# Altium integrated library ON Semi Triacs.IntLib: 233 symbols (part 5 of 5)
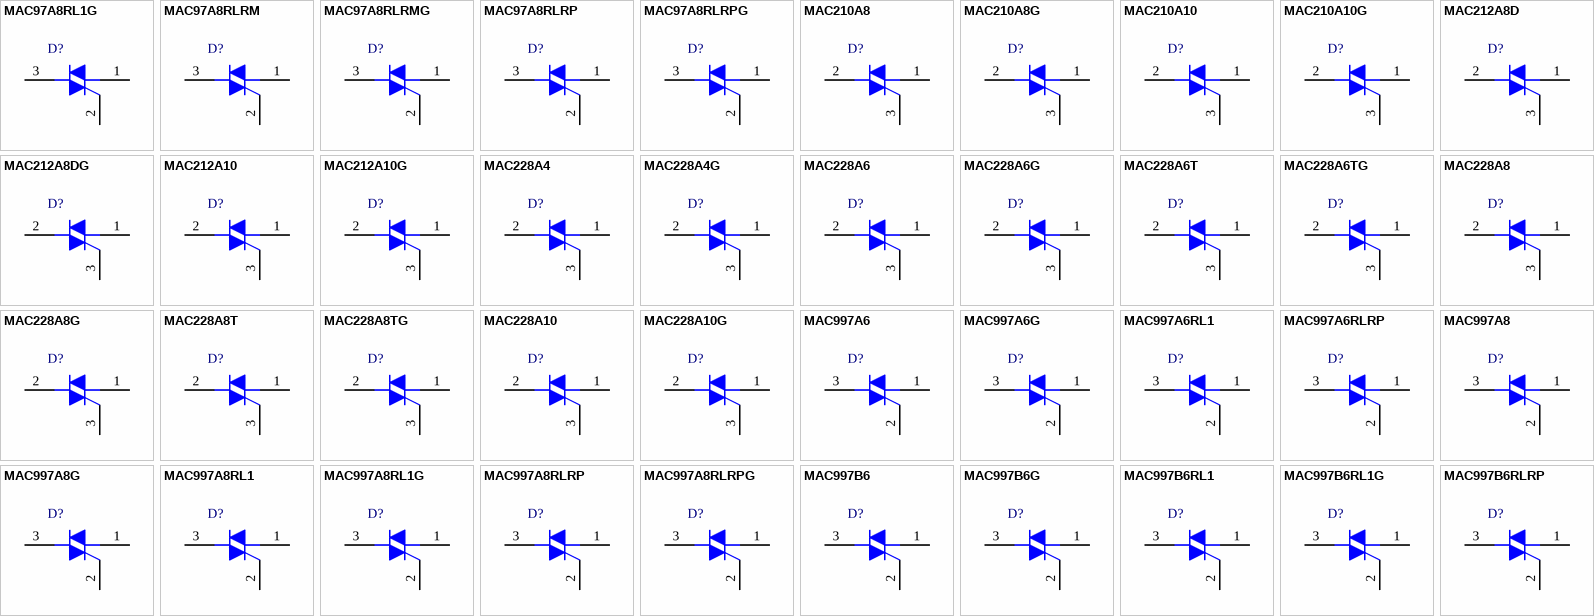
[diagram p9: symbols MAC97A8RL1G to MAC997B6RLRP]

## MAC997B6
designator D?
Sensitive Gate Triacs, Silicon Bidirectional Thyristor, 3-Pin TO-92, Bulk Box; Manufacturer: On Semiconductor; PartNumber: MAC997B6; IT(RMS) Max (A): 0.8; ITSM Max (A): 8; DatasheetVersion: Rev. 3; PackageVersion: Rev. AM; PackageReference: TO-92-3-29-11_AM_SL; PackageDescription: 3-Pin Transistor Outline, Body 4.825 x 3.685 mm, Pitch 1.27 mm; Supplier 1: Digi-Key; Supplier Part Number 1: MAC997B6-ND; Packing: Bulk Box; Mounting Technology: Through Hole; ComponentLink1Description: Manufacturer URL; ComponentLink1URL: http://www.onsemi.com/; ComponentLink2Description: Datasheet; ComponentLink2URL: http://www.onsemi.com/pub_link/Collateral/MAC997-D.PDF; ComponentLink3Description: Package Specification; ComponentLink3URL: http://www.onsemi.cn/pub_link/Collateral/2N6426-D.PDF
footprint ONSC-TO-92-3-29-11 (TO, 3-Leads, Body Dia 4.7mm, Pitch 1.27mm)
pins: 1 MT1, 2 G, 3 MT2

## MAC997B6G
designator D?
Sensitive Gate Triacs, Silicon Bidirectional Thyristor, 3-Pin TO-92, Pb-Free, Bulk Box; Manufacturer: On Semiconductor; PartNumber: MAC997B6G; IT(RMS) Max (A): 0.8; ITSM Max (A): 8; DatasheetVersion: Rev. 3; PackageVersion: Rev. AM; PackageReference: TO-92-3-29-11_AM_SL; PackageDescription: 3-Pin Transistor Outline, Body 4.825 x 3.685 mm, Pitch 1.27 mm; Supplier 1: Digi-Key; Supplier Part Number 1: MAC997B6G-ND; Supplier 2: Mouser; Supplier Part Number 2: 863-MAC997B6G; Packing: Bulk Box; RoHS: Pb-Free; Mounting Technology: Through Hole; ComponentLink1Description: Manufacturer URL; ComponentLink1URL: http://www.onsemi.com/; ComponentLink2Description: Datasheet; ComponentLink2URL: http://www.onsemi.com/pub_link/Collateral/MAC997-D.PDF; ComponentLink3Description: Package Specification; ComponentLink3URL: http://www.onsemi.cn/pub_link/Collateral/2N6426-D.PDF
footprint ONSC-TO-92-3-29-11 (TO, 3-Leads, Body Dia 4.7mm, Pitch 1.27mm)
pins: 1 MT1, 2 G, 3 MT2

## MAC997B6RL1
designator D?
Sensitive Gate Triacs, Silicon Bidirectional Thyristor, 3-Pin TO-92, Tape and Reel; Manufacturer: On Semiconductor; PartNumber: MAC997B6RL1; IT(RMS) Max (A): 0.8; ITSM Max (A): 8; DatasheetVersion: Rev. 3; PackageVersion: Rev. AM; PackageReference: TO-92-3-29-11_AM_SL; PackageDescription: 3-Pin Transistor Outline, Body 4.825 x 3.685 mm, Pitch 1.27 mm; Packing: Tape and Reel; Mounting Technology: Through Hole; ComponentLink1Description: Manufacturer URL; ComponentLink1URL: http://www.onsemi.com/; ComponentLink2Description: Datasheet; ComponentLink2URL: http://www.onsemi.com/pub_link/Collateral/MAC997-D.PDF; ComponentLink3Description: Package Specification; ComponentLink3URL: http://www.onsemi.cn/pub_link/Collateral/2N6426-D.PDF
footprint ONSC-TO-92-3-29-11 (TO, 3-Leads, Body Dia 4.7mm, Pitch 1.27mm)
pins: 1 MT1, 2 G, 3 MT2

## MAC997B6RL1G
designator D?
Sensitive Gate Triacs, Silicon Bidirectional Thyristor, 3-Pin TO-92, Pb-Free, Tape and Reel; Manufacturer: On Semiconductor; PartNumber: MAC997B6RL1G; IT(RMS) Max (A): 0.8; ITSM Max (A): 8; DatasheetVersion: Rev. 3; PackageVersion: Rev. AM; PackageReference: TO-92-3-29-11_AM_SL; PackageDescription: 3-Pin Transistor Outline, Body 4.825 x 3.685 mm, Pitch 1.27 mm; Supplier 1: Digi-Key; Supplier Part Number 1: MAC997B6RL1G-ND; Supplier 2: Mouser; Supplier Part Number 2: 863-MAC997B6RL1G; Packing: Tape and Reel; RoHS: Pb-Free; Mounting Technology: Through Hole; ComponentLink1Description: Manufacturer URL; ComponentLink1URL: http://www.onsemi.com/; ComponentLink2Description: Datasheet; ComponentLink2URL: http://www.onsemi.com/pub_link/Collateral/MAC997-D.PDF; ComponentLink3Description: Package Specification; ComponentLink3URL: http://www.onsemi.cn/pub_link/Collateral/2N6426-D.PDF
footprint ONSC-TO-92-3-29-11 (TO, 3-Leads, Body Dia 4.7mm, Pitch 1.27mm)
pins: 1 MT1, 2 G, 3 MT2

## MAC997B6RLRP
designator D?
Sensitive Gate Triacs, Silicon Bidirectional Thyristor, 3-Pin TO-92, Fan-Fold; Manufacturer: On Semiconductor; PartNumber: MAC997B6RLRP; IT(RMS) Max (A): 0.8; ITSM Max (A): 8; DatasheetVersion: Rev. 3; PackageVersion: Rev. AM; PackageReference: TO-92-3-29-11_AM_SL; PackageDescription: 3-Pin Transistor Outline, Body 4.825 x 3.685 mm, Pitch 1.27 mm; Supplier 1: Mouser; Supplier Part Number 1: N/A; Packing: Fan-Fold; Mounting Technology: Through Hole; ComponentLink1Description: Manufacturer URL; ComponentLink1URL: http://www.onsemi.com/; ComponentLink2Description: Datasheet; ComponentLink2URL: http://www.onsemi.com/pub_link/Collateral/MAC997-D.PDF; ComponentLink3Description: Package Specification; ComponentLink3URL: http://www.onsemi.cn/pub_link/Collateral/2N6426-D.PDF
footprint ONSC-TO-92-3-29-11 (TO, 3-Leads, Body Dia 4.7mm, Pitch 1.27mm)
pins: 1 MT1, 2 G, 3 MT2

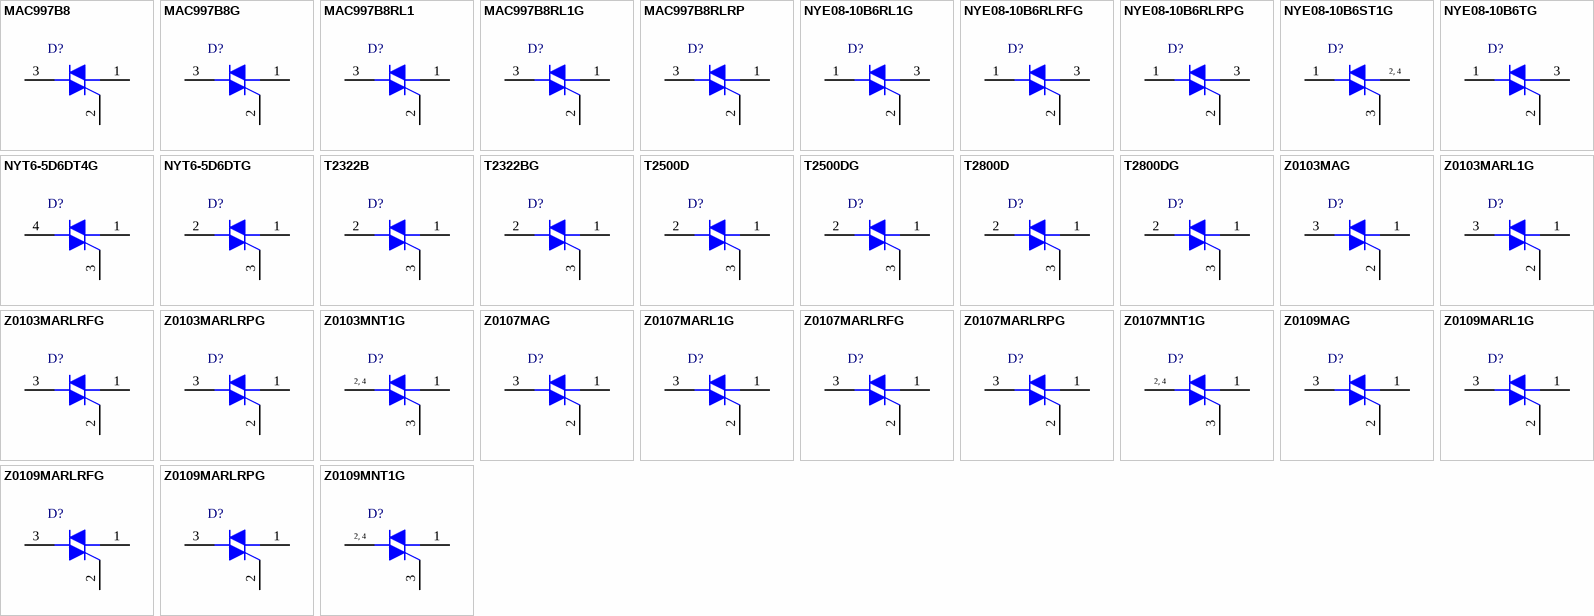
[diagram p5: symbols MAC997B8 to Z0109MNT1G]

## MAC997B8
designator D?
Sensitive Gate Triacs, Silicon Bidirectional Thyristor, 3-Pin TO-92, Bulk Box; Manufacturer: On Semiconductor; PartNumber: MAC997B8; IT(RMS) Max (A): 0.8; ITSM Max (A): 8; DatasheetVersion: Rev. 3; PackageVersion: Rev. AM; PackageReference: TO-92-3-29-11_AM_SL; PackageDescription: 3-Pin Transistor Outline, Body 4.825 x 3.685 mm, Pitch 1.27 mm; Supplier 1: Digi-Key; Supplier Part Number 1: MAC997B8-ND; Packing: Bulk Box; Mounting Technology: Through Hole; ComponentLink1Description: Manufacturer URL; ComponentLink1URL: http://www.onsemi.com/; ComponentLink2Description: Datasheet; ComponentLink2URL: http://www.onsemi.com/pub_link/Collateral/MAC997-D.PDF; ComponentLink3Description: Package Specification; ComponentLink3URL: http://www.onsemi.cn/pub_link/Collateral/2N6426-D.PDF
footprint ONSC-TO-92-3-29-11 (TO, 3-Leads, Body Dia 4.7mm, Pitch 1.27mm)
pins: 1 MT1, 2 G, 3 MT2

## MAC997B8G
designator D?
Sensitive Gate Triacs, Silicon Bidirectional Thyristor, 3-Pin TO-92, Pb-Free, Bulk Box; Manufacturer: On Semiconductor; PartNumber: MAC997B8G; IT(RMS) Max (A): 0.8; ITSM Max (A): 8; DatasheetVersion: Rev. 3; PackageVersion: Rev. AM; PackageReference: TO-92-3-29-11_AM_SL; PackageDescription: 3-Pin Transistor Outline, Body 4.825 x 3.685 mm, Pitch 1.27 mm; Supplier 1: Digi-Key; Supplier Part Number 1: MAC997B8G-ND; Supplier 2: Mouser; Supplier Part Number 2: 863-MAC997B8G; Packing: Bulk Box; RoHS: Pb-Free; Mounting Technology: Through Hole; ComponentLink1Description: Manufacturer URL; ComponentLink1URL: http://www.onsemi.com/; ComponentLink2Description: Datasheet; ComponentLink2URL: http://www.onsemi.com/pub_link/Collateral/MAC997-D.PDF; ComponentLink3Description: Package Specification; ComponentLink3URL: http://www.onsemi.cn/pub_link/Collateral/2N6426-D.PDF
footprint ONSC-TO-92-3-29-11 (TO, 3-Leads, Body Dia 4.7mm, Pitch 1.27mm)
pins: 1 MT1, 2 G, 3 MT2

## MAC997B8RL1
designator D?
Sensitive Gate Triacs, Silicon Bidirectional Thyristor, 3-Pin TO-92, Tape and Reel; Manufacturer: On Semiconductor; PartNumber: MAC997B8RL1; IT(RMS) Max (A): 0.8; ITSM Max (A): 8; DatasheetVersion: Rev. 3; PackageVersion: Rev. AM; PackageReference: TO-92-3-29-11_AM_SL; PackageDescription: 3-Pin Transistor Outline, Body 4.825 x 3.685 mm, Pitch 1.27 mm; Packing: Tape and Reel; Mounting Technology: Through Hole; ComponentLink1Description: Manufacturer URL; ComponentLink1URL: http://www.onsemi.com/; ComponentLink2Description: Datasheet; ComponentLink2URL: http://www.onsemi.com/pub_link/Collateral/MAC997-D.PDF; ComponentLink3Description: Package Specification; ComponentLink3URL: http://www.onsemi.cn/pub_link/Collateral/2N6426-D.PDF
footprint ONSC-TO-92-3-29-11 (TO, 3-Leads, Body Dia 4.7mm, Pitch 1.27mm)
pins: 1 MT1, 2 G, 3 MT2

## MAC997B8RL1G
designator D?
Sensitive Gate Triacs, Silicon Bidirectional Thyristor, 3-Pin TO-92, Pb-Free, Tape and Reel; Manufacturer: On Semiconductor; PartNumber: MAC997B8RL1G; IT(RMS) Max (A): 0.8; ITSM Max (A): 8; DatasheetVersion: Rev. 3; PackageVersion: Rev. AM; PackageReference: TO-92-3-29-11_AM_SL; PackageDescription: 3-Pin Transistor Outline, Body 4.825 x 3.685 mm, Pitch 1.27 mm; Supplier 1: Digi-Key; Supplier Part Number 1: MAC997B8RL1G-ND; Supplier 2: Mouser; Supplier Part Number 2: 863-MAC997B8RL1G; Packing: Tape and Reel; RoHS: Pb-Free; Mounting Technology: Through Hole; ComponentLink1Description: Manufacturer URL; ComponentLink1URL: http://www.onsemi.com/; ComponentLink2Description: Datasheet; ComponentLink2URL: http://www.onsemi.com/pub_link/Collateral/MAC997-D.PDF; ComponentLink3Description: Package Specification; ComponentLink3URL: http://www.onsemi.cn/pub_link/Collateral/2N6426-D.PDF
footprint ONSC-TO-92-3-29-11 (TO, 3-Leads, Body Dia 4.7mm, Pitch 1.27mm)
pins: 1 MT1, 2 G, 3 MT2

## MAC997B8RLRP
designator D?
Sensitive Gate Triacs, Silicon Bidirectional Thyristor, 3-Pin TO-92, Fan-Fold; Manufacturer: On Semiconductor; PartNumber: MAC997B8RLRP; IT(RMS) Max (A): 0.8; ITSM Max (A): 8; DatasheetVersion: Rev. 3; PackageVersion: Rev. AM; PackageReference: TO-92-3-29-11_AM_SL; PackageDescription: 3-Pin Transistor Outline, Body 4.825 x 3.685 mm, Pitch 1.27 mm; Supplier 1: Mouser; Supplier Part Number 1: N/A; Packing: Fan-Fold; Mounting Technology: Through Hole; ComponentLink1Description: Manufacturer URL; ComponentLink1URL: http://www.onsemi.com/; ComponentLink2Description: Datasheet; ComponentLink2URL: http://www.onsemi.com/pub_link/Collateral/MAC997-D.PDF; ComponentLink3Description: Package Specification; ComponentLink3URL: http://www.onsemi.cn/pub_link/Collateral/2N6426-D.PDF
footprint ONSC-TO-92-3-29-11 (TO, 3-Leads, Body Dia 4.7mm, Pitch 1.27mm)
pins: 1 MT1, 2 G, 3 MT2

## NYE08-10B6RL1G
designator D?
Protected Triac, Silicon Bidirectional Thyristor, 3-Pin TO-92, Pb-Free, Tape and Reel; Manufacturer: On Semiconductor; PartNumber: NYE08-10B6RL1G; IGT Max (mA): 10; IT(RMS) Max (A): 0.8; ITSM Max (A): 8; DatasheetVersion: Rev. 0; PackageVersion: Rev. AM; PackageReference: TO-92-3-29-11_AM_SL; PackageDescription: 3-Pin Transistor Outline, Body 4.825 x 3.685 mm, Pitch 1.27 mm; Packing: Tape and Reel; RoHS: Pb-Free; Mounting Technology: Through Hole; ComponentLink1Description: Manufacturer URL; ComponentLink1URL: http://www.onsemi.com/; ComponentLink2Description: Datasheet; ComponentLink2URL: http://www.onsemi.com/pub_link/Collateral/NYE08-10B6.PDF; ComponentLink3Description: Package Specification; ComponentLink3URL: http://www.onsemi.cn/pub_link/Collateral/2N6426-D.PDF
footprint ONSC-TO-92-3-29-11 (TO, 3-Leads, Body Dia 4.7mm, Pitch 1.27mm)
pins: 1 OUT, 2 G, 3 COM

## NYE08-10B6RLRFG
designator D?
Protected Triac, Silicon Bidirectional Thyristor, 3-Pin TO-92, Pb-Free, Fan-Fold; Manufacturer: On Semiconductor; PartNumber: NYE08-10B6RLRFG; IGT Max (mA): 10; IT(RMS) Max (A): 0.8; ITSM Max (A): 8; DatasheetVersion: Rev. 0; PackageVersion: Rev. AM; PackageReference: TO-92-3-29-11_AM_SL; PackageDescription: 3-Pin Transistor Outline, Body 4.825 x 3.685 mm, Pitch 1.27 mm; Packing: Fan-Fold; RoHS: Pb-Free; Mounting Technology: Through Hole; ComponentLink1Description: Manufacturer URL; ComponentLink1URL: http://www.onsemi.com/; ComponentLink2Description: Datasheet; ComponentLink2URL: http://www.onsemi.com/pub_link/Collateral/NYE08-10B6.PDF; ComponentLink3Description: Package Specification; ComponentLink3URL: http://www.onsemi.cn/pub_link/Collateral/2N6426-D.PDF
footprint ONSC-TO-92-3-29-11 (TO, 3-Leads, Body Dia 4.7mm, Pitch 1.27mm)
pins: 1 OUT, 2 G, 3 COM

## NYE08-10B6RLRPG
designator D?
Protected Triac, Silicon Bidirectional Thyristor, 3-Pin TO-92, Pb-Free, Fan-Fold; Manufacturer: On Semiconductor; PartNumber: NYE08-10B6RLRPG; IGT Max (mA): 10; IT(RMS) Max (A): 0.8; ITSM Max (A): 8; DatasheetVersion: Rev. 0; PackageVersion: Rev. AM; PackageReference: TO-92-3-29-11_AM_SL; PackageDescription: 3-Pin Transistor Outline, Body 4.825 x 3.685 mm, Pitch 1.27 mm; Packing: Fan-Fold; RoHS: Pb-Free; Mounting Technology: Through Hole; ComponentLink1Description: Manufacturer URL; ComponentLink1URL: http://www.onsemi.com/; ComponentLink2Description: Datasheet; ComponentLink2URL: http://www.onsemi.com/pub_link/Collateral/NYE08-10B6.PDF; ComponentLink3Description: Package Specification; ComponentLink3URL: http://www.onsemi.cn/pub_link/Collateral/2N6426-D.PDF
footprint ONSC-TO-92-3-29-11 (TO, 3-Leads, Body Dia 4.7mm, Pitch 1.27mm)
pins: 1 OUT, 2 G, 3 COM

## NYE08-10B6ST1G
designator D?
Protected Triac, Silicon Bidirectional Thyristor, 4-Pin SOT-223, Pb-Free, Tape and Reel; Manufacturer: On Semiconductor; PartNumber: NYE08-10B6ST1G; IGT Max (mA): 10; IT(RMS) Max (A): 0.8; ITSM Max (A): 8; DatasheetVersion: Rev. 0; PackageVersion: Rev. N, 08/2009; PackageReference: SOT-223-4-318E-04; PackageDescription: 4-Pin Small Outline Transistor, Body 6.5 x 3.5 mm, Pitch 2.3 mm; Supplier 1: Newark; Supplier Part Number 1: 45W3762; Supplier 2: Mouser; Supplier Part Number 2: 863-NYE08-10B6ST1G; Packing: Tape and Reel; RoHS: Pb-Free; Mounting Technology: Surface Mount; ComponentLink1Description: Manufacturer URL; ComponentLink1URL: http://www.onsemi.com/; ComponentLink2Description: Datasheet; ComponentLink2URL: http://www.onsemi.com/pub_link/Collateral/NYE08-10B6S-D.PDF; ComponentLink3Description: Package Specification; ComponentLink3URL: http://www.onsemi.com/pub_link/Collateral/318E-04.PDF
footprint ONSC-SOT-223-4-318E-04_V (SOT223, 4-Leads, Body 6.5x3.5mm, Pitch 2.3mm)
pins: 1 OUT, 2 COM, 3 G, 4 COM
text: 2, 4

## NYE08-10B6TG
designator D?
Protected Triac, Silicon Bidirectional Thyristor, 3-Pin TO-92, Pb-Free, Bulk Box; Manufacturer: On Semiconductor; PartNumber: NYE08-10B6TG; IGT Max (mA): 10; IT(RMS) Max (A): 0.8; ITSM Max (A): 8; DatasheetVersion: Rev. 0; PackageVersion: Rev. AM; PackageReference: TO-92-3-29-11_AM_SL; PackageDescription: 3-Pin Transistor Outline, Body 4.825 x 3.685 mm, Pitch 1.27 mm; Supplier 1: Mouser; Supplier Part Number 1: 863-NYE08-10B6TG; Packing: Bulk Box; RoHS: Pb-Free; Mounting Technology: Through Hole; ComponentLink1Description: Manufacturer URL; ComponentLink1URL: http://www.onsemi.com/; ComponentLink2Description: Datasheet; ComponentLink2URL: http://www.onsemi.com/pub_link/Collateral/NYE08-10B6.PDF; ComponentLink3Description: Package Specification; ComponentLink3URL: http://www.onsemi.cn/pub_link/Collateral/2N6426-D.PDF
footprint ONSC-TO-92-3-29-11 (TO, 3-Leads, Body Dia 4.7mm, Pitch 1.27mm)
pins: 1 OUT, 2 G, 3 COM

## NYT6-5D6DT4G
designator D?
Sensitive Gate Triacs, Silicon Bidirectional Thyristor, 3-Pin DPAK, Pb-Free, Tape and Reel; Manufacturer: On Semiconductor; PartNumber: NYT6-5D6DT4G; IT(RMS) Max (A): 6; ITSM Max (A): 60; DatasheetVersion: Rev. 2; PackageVersion: Rev. E, 02/2014; PackageReference: DPAK-3-369C-01; PackageDescription: 3-Pin Flange Mount, Body 6.54 x 6.095 mm, Pitch 2.29 mm; Packing: Tape and Reel; RoHS: Pb-Free; Mounting Technology: Surface Mount; ComponentLink1Description: Manufacturer URL; ComponentLink1URL: http://www.onsemi.com/; ComponentLink2Description: Datasheet; ComponentLink2URL: http://www.onsemi.com/pub_link/Collateral/NYT6-5D6D-D.PDF; ComponentLink3Description: Package Specification; ComponentLink3URL: http://www.onsemi.cn/pub_link/Collateral/369C.PDF
footprint ONSC-DPAK-3-369C-01_V (DPAK, 3-Leads, Body 6.54x6.095mm, Pitch 2.29mm)
pins: 1 MT1, 3 G, 4 MT2

## NYT6-5D6DTG
designator D?
Sensitive Gate Triacs, Silicon Bidirectional Thyristor, 3-Pin IPAK, Pb-Free, Tube; Manufacturer: On Semiconductor; PartNumber: NYT6-5D6DTG; IT(RMS) Max (A): 6; ITSM Max (A): 60; DatasheetVersion: Rev. 2; PackageVersion: Rev. C, 12/2010; PackageReference: IPAK-3-369D-01; PackageDescription: 3-Pin Flange Mount, Vertical Straight Lead, Body 6.54 x 2.285 mm, Pitch 2.29 mm; Packing: Tube; RoHS: Pb-Free; Mounting Technology: Through Hole; Code_JEDEC: TO-251; ComponentLink1Description: Manufacturer URL; ComponentLink1URL: http://www.onsemi.com/; ComponentLink2Description: Datasheet; ComponentLink2URL: http://www.onsemi.com/pub_link/Collateral/NYT6-5D6D-D.PDF; ComponentLink3Description: Package Specification; ComponentLink3URL: http://www.onsemi.cn/pub_link/Collateral/369D.PDF
footprint ONSC-IPAK-3-369D-01 (FM, 3-Leads, Body 6.75x2.4mm, Pitch 2.29mm)
pins: 1 MT1, 2 MT2, 3 G

## T2322B
designator D?
Sensitive Gate Triacs, Silicon Bidirectional Thyristor, 3-Pin TO-225, Bulk Box; Manufacturer: On Semiconductor; PartNumber: T2322B; IGT Max (mA): 10; IT(RMS) Max (A): 2.5; ITSM Max (A): 25; DatasheetVersion: Rev. 5; PackageVersion: Rev. Z; PackageReference: TO-225-3-77-09; PackageDescription: 3-Pin Flange Mount, Vertical Straight Lead, Body 7.62 x 2.54 mm, Pitch 2.39 mm; Supplier 1: Digi-Key; Supplier Part Number 1: T2322BOS-ND; Packing: Bulk Box; Mounting Technology: Through Hole; ComponentLink1Description: Manufacturer URL; ComponentLink1URL: http://www.onsemi.com/; ComponentLink2Description: Datasheet; ComponentLink2URL: http://www.onsemi.com/pub_link/Collateral/T2322-D.PDF; ComponentLink3Description: Package Specification; ComponentLink3URL: http://www.onsemi.cn/pub_link/Collateral/C106-D.PDF
footprint ONSC-TO-225-3-77-09_Z (FM, 3-Leads, Body 7.75x2.7mm, Pitch 2.39mm)
pins: 1 MT1, 2 MT2, 3 G

## T2322BG
designator D?
Sensitive Gate Triacs, Silicon Bidirectional Thyristor, 3-Pin TO-225, Pb-Free, Bulk Box; Manufacturer: On Semiconductor; PartNumber: T2322BG; IGT Max (mA): 10; IT(RMS) Max (A): 2.5; ITSM Max (A): 25; DatasheetVersion: Rev. 5; PackageVersion: Rev. Z; PackageReference: TO-225-3-77-09; PackageDescription: 3-Pin Flange Mount, Vertical Straight Lead, Body 7.62 x 2.54 mm, Pitch 2.39 mm; Supplier 1: Digi-Key; Supplier Part Number 1: T2322BGOS-ND; Supplier 2: Newark; Supplier Part Number 2: 42K2704; Supplier 3: Mouser; Supplier Part Number 3: 863-T2322BG; Packing: Bulk Box; RoHS: Pb-Free; Mounting Technology: Through Hole; ComponentLink1Description: Manufacturer URL; ComponentLink1URL: http://www.onsemi.com/; ComponentLink2Description: Datasheet; ComponentLink2URL: http://www.onsemi.com/pub_link/Collateral/T2322-D.PDF; ComponentLink3Description: Package Specification; ComponentLink3URL: http://www.onsemi.cn/pub_link/Collateral/C106-D.PDF
footprint ONSC-TO-225-3-77-09_Z (FM, 3-Leads, Body 7.75x2.7mm, Pitch 2.39mm)
pins: 1 MT1, 2 MT2, 3 G

## T2500D
designator D?
Triacs, Silicon Bidirectional Thyristor, 3-Pin TO-220, Bulk Box; Manufacturer: On Semiconductor; PartNumber: T2500D; IT(RMS) Max (A): 6; ITSM Max (A): 60; DatasheetVersion: Rev. 4; PackageVersion: Rev. O, 07/2008; PackageReference: TO-220-3-221A-07; PackageDescription: 3-Pin Flange Mount, Vertical Straight Lead, Body 9.97 x 4.445 mm, Pitch 2.54 mm; Packing: Bulk Box; Mounting Technology: Through Hole; ComponentLink1Description: Manufacturer URL; ComponentLink1URL: http://www.onsemi.com/; ComponentLink2Description: Datasheet; ComponentLink2URL: http://www.onsemi.com/pub_link/Collateral/T2500-D.PDF; ComponentLink3Description: Package Specification; ComponentLink3URL: http://www.onsemi.com/pub_link/Collateral/221A-07.PDF
footprint ONSC-TO-220-3-221A-07 (FM, 3-Leads, Body 10.3x4.85mm, Pitch 2.54mm)
pins: 1 MT1, 2 MT2, 3 G

## T2500DG
designator D?
Triacs, Silicon Bidirectional Thyristor, 3-Pin TO-220, Pb-Free, Bulk Box; Manufacturer: On Semiconductor; PartNumber: T2500DG; IT(RMS) Max (A): 6; ITSM Max (A): 60; DatasheetVersion: Rev. 4; PackageVersion: Rev. O, 07/2008; PackageReference: TO-220-3-221A-07; PackageDescription: 3-Pin Flange Mount, Vertical Straight Lead, Body 9.97 x 4.445 mm, Pitch 2.54 mm; Supplier 1: Digi-Key; Supplier Part Number 1: T2500DGOS-ND; Supplier 2: Farnell; Supplier Part Number 2: 1126289; Supplier 3: Newark; Supplier Part Number 3: 42K2705; Supplier 4: Mouser; Supplier Part Number 4: 863-T2500DG; Packing: Bulk Box; RoHS: Pb-Free; Mounting Technology: Through Hole; ComponentLink1Description: Manufacturer URL; ComponentLink1URL: http://www.onsemi.com/; ComponentLink2Description: Datasheet; ComponentLink2URL: http://www.onsemi.com/pub_link/Collateral/T2500-D.PDF; ComponentLink3Description: Package Specification; ComponentLink3URL: http://www.onsemi.com/pub_link/Collateral/221A-07.PDF
footprint ONSC-TO-220-3-221A-07 (FM, 3-Leads, Body 10.3x4.85mm, Pitch 2.54mm)
pins: 1 MT1, 2 MT2, 3 G

## T2800D
designator D?
Triacs, Silicon Bidirectional Thyristor, 3-Pin TO-220, Bulk Box; Manufacturer: On Semiconductor; PartNumber: T2800D; IT(RMS) Max (A): 8; ITSM Max (A): 100; DatasheetVersion: Rev. 5; PackageVersion: Rev. O, 07/2008; PackageReference: TO-220-3-221A-07; PackageDescription: 3-Pin Flange Mount, Vertical Straight Lead, Body 9.97 x 4.445 mm, Pitch 2.54 mm; Packing: Bulk Box; Mounting Technology: Through Hole; ComponentLink1Description: Manufacturer URL; ComponentLink1URL: http://www.onsemi.com/; ComponentLink2Description: Datasheet; ComponentLink2URL: http://www.onsemi.com/pub_link/Collateral/T2800-D.PDF; ComponentLink3Description: Package Specification; ComponentLink3URL: http://www.onsemi.com/pub_link/Collateral/221A-07.PDF
footprint ONSC-TO-220-3-221A-07 (FM, 3-Leads, Body 10.3x4.85mm, Pitch 2.54mm)
pins: 1 MT1, 2 MT2, 3 G

## T2800DG
designator D?
Triacs, Silicon Bidirectional Thyristor, 3-Pin TO-220, Pb-Free, Bulk Box; Manufacturer: On Semiconductor; PartNumber: T2800DG; IT(RMS) Max (A): 8; ITSM Max (A): 100; DatasheetVersion: Rev. 5; PackageVersion: Rev. O, 07/2008; PackageReference: TO-220-3-221A-07; PackageDescription: 3-Pin Flange Mount, Vertical Straight Lead, Body 9.97 x 4.445 mm, Pitch 2.54 mm; Supplier 1: Digi-Key; Supplier Part Number 1: T2800DGOS-ND; Supplier 2: Farnell; Supplier Part Number 2: 1703910; Supplier 3: Newark; Supplier Part Number 3: 42K2706; Supplier 4: Mouser; Supplier Part Number 4: 863-T2800DG; Packing: Bulk Box; RoHS: Pb-Free; Mounting Technology: Through Hole; ComponentLink1Description: Manufacturer URL; ComponentLink1URL: http://www.onsemi.com/; ComponentLink2Description: Datasheet; ComponentLink2URL: http://www.onsemi.com/pub_link/Collateral/T2800-D.PDF; ComponentLink3Description: Package Specification; ComponentLink3URL: http://www.onsemi.com/pub_link/Collateral/221A-07.PDF
footprint ONSC-TO-220-3-221A-07 (FM, 3-Leads, Body 10.3x4.85mm, Pitch 2.54mm)
pins: 1 MT1, 2 MT2, 3 G

## Z0103MAG
designator D?
Sensitive Gate Triac Series, Silicon Bidirectional Thyristor, 3-Pin TO-92, Pb-Free, Bulk Box; Manufacturer: On Semiconductor; PartNumber: Z0103MAG; IT(RMS) Max (A): 1; ITSM Max (A): 8; DatasheetVersion: Rev. 4; PackageVersion: Rev. AM; PackageReference: TO-92-3-29-11_AM_SL; PackageDescription: 3-Pin Transistor Outline, Body 4.825 x 3.685 mm, Pitch 1.27 mm; Supplier 1: Digi-Key; Supplier Part Number 1: Z0103MAG-ND; Supplier 2: Newark; Supplier Part Number 2: 01P5189; Supplier 3: Mouser; Supplier Part Number 3: 863-Z0103MAG; Packing: Bulk Box; RoHS: Pb-Free; Mounting Technology: Through Hole; ComponentLink1Description: Manufacturer URL; ComponentLink1URL: http://www.onsemi.com/; ComponentLink2Description: Datasheet; ComponentLink2URL: http://www.onsemi.com/pub_link/Collateral/Z0103MA-D.PDF; ComponentLink3Description: Package Specification; ComponentLink3URL: http://www.onsemi.cn/pub_link/Collateral/2N6426-D.PDF
footprint ONSC-TO-92-3-29-11 (TO, 3-Leads, Body Dia 4.7mm, Pitch 1.27mm)
pins: 1 MT1, 2 G, 3 MT2

## Z0103MARL1G
designator D?
Sensitive Gate Triac Series, Silicon Bidirectional Thyristor, 3-Pin TO-92, Pb-Free, Tape and Reel; Manufacturer: On Semiconductor; PartNumber: Z0103MARL1G; IT(RMS) Max (A): 1; ITSM Max (A): 8; DatasheetVersion: Rev. 4; PackageVersion: Rev. AM; PackageReference: TO-92-3-29-11_AM_SL; PackageDescription: 3-Pin Transistor Outline, Body 4.825 x 3.685 mm, Pitch 1.27 mm; Supplier 1: Digi-Key; Supplier Part Number 1: Z0103MARL1G-ND; Supplier 2: Mouser; Supplier Part Number 2: 863-Z0103MARL1G; Packing: Tape and Reel; RoHS: Pb-Free; Mounting Technology: Through Hole; ComponentLink1Description: Manufacturer URL; ComponentLink1URL: http://www.onsemi.com/; ComponentLink2Description: Datasheet; ComponentLink2URL: http://www.onsemi.com/pub_link/Collateral/Z0103MA-D.PDF; ComponentLink3Description: Package Specification; ComponentLink3URL: http://www.onsemi.cn/pub_link/Collateral/2N6426-D.PDF
footprint ONSC-TO-92-3-29-11 (TO, 3-Leads, Body Dia 4.7mm, Pitch 1.27mm)
pins: 1 MT1, 2 G, 3 MT2

## Z0103MARLRFG
designator D?
Sensitive Gate Triac Series, Silicon Bidirectional Thyristor, 3-Pin TO-92, Pb-Free, Fan-Fold; Manufacturer: On Semiconductor; PartNumber: Z0103MARLRFG; IT(RMS) Max (A): 1; ITSM Max (A): 8; DatasheetVersion: Rev. 4; PackageVersion: Rev. AM; PackageReference: TO-92-3-29-11_AM_SL; PackageDescription: 3-Pin Transistor Outline, Body 4.825 x 3.685 mm, Pitch 1.27 mm; Supplier 1: Digi-Key; Supplier Part Number 1: Z0103MARLRFG-ND; Supplier 2: Mouser; Supplier Part Number 2: 863-Z0103MARLRFG; Packing: Fan-Fold; RoHS: Pb-Free; Mounting Technology: Through Hole; ComponentLink1Description: Manufacturer URL; ComponentLink1URL: http://www.onsemi.com/; ComponentLink2Description: Datasheet; ComponentLink2URL: http://www.onsemi.com/pub_link/Collateral/Z0103MA-D.PDF; ComponentLink3Description: Package Specification; ComponentLink3URL: http://www.onsemi.cn/pub_link/Collateral/2N6426-D.PDF
footprint ONSC-TO-92-3-29-11 (TO, 3-Leads, Body Dia 4.7mm, Pitch 1.27mm)
pins: 1 MT1, 2 G, 3 MT2

## Z0103MARLRPG
designator D?
Sensitive Gate Triac Series, Silicon Bidirectional Thyristor, 3-Pin TO-92, Pb-Free, Fan-Fold; Manufacturer: On Semiconductor; PartNumber: Z0103MARLRPG; IT(RMS) Max (A): 1; ITSM Max (A): 8; DatasheetVersion: Rev. 4; PackageVersion: Rev. AM; PackageReference: TO-92-3-29-11_AM_SL; PackageDescription: 3-Pin Transistor Outline, Body 4.825 x 3.685 mm, Pitch 1.27 mm; Supplier 1: Digi-Key; Supplier Part Number 1: Z0103MARLRPG-ND; Supplier 2: Mouser; Supplier Part Number 2: 863-Z0103MARLRPG; Packing: Fan-Fold; RoHS: Pb-Free; Mounting Technology: Through Hole; ComponentLink1Description: Manufacturer URL; ComponentLink1URL: http://www.onsemi.com/; ComponentLink2Description: Datasheet; ComponentLink2URL: http://www.onsemi.com/pub_link/Collateral/Z0103MA-D.PDF; ComponentLink3Description: Package Specification; ComponentLink3URL: http://www.onsemi.cn/pub_link/Collateral/2N6426-D.PDF
footprint ONSC-TO-92-3-29-11 (TO, 3-Leads, Body Dia 4.7mm, Pitch 1.27mm)
pins: 1 MT1, 2 G, 3 MT2

## Z0103MNT1G
designator D?
Sensitive Gate Triac Series, Silicon Bidirectional Thyristor, 4-Pin SOT-223, Pb-Free, Tape and Reel; Manufacturer: On Semiconductor; PartNumber: Z0103MNT1G; IT(RMS) Max (A): 1; ITSM Max (A): 8; DatasheetVersion: Rev. 3; PackageVersion: Rev. N, 08/2009; PackageReference: SOT-223-4-318E-04; PackageDescription: 4-Pin Small Outline Transistor, Body 6.5 x 3.5 mm, Pitch 2.3 mm; Supplier 1: Digi-Key; Supplier Part Number 1: Z0103MNT1GOSTR-ND; Supplier 2: Digi-Key; Supplier Part Number 2: Z0103MNT1GOSCT-ND; Supplier 3: Digi-Key; Supplier Part Number 3: Z0103MNT1GOSDKR-ND; Supplier 4: Newark; Supplier Part Number 4: 95M7653; Supplier 5: Mouser; Supplier Part Number 5: 863-Z0103MNT1G; Packing: Tape and Reel; RoHS: Pb-Free; Mounting Technology: Surface Mount; ComponentLink1Description: Manufacturer URL; ComponentLink1URL: http://www.onsemi.com/; ComponentLink2Description: Datasheet; ComponentLink2URL: http://www.onsemi.com/pub_link/Collateral/Z0103MN-D.PDF; ComponentLink3Description: Package Specification; ComponentLink3URL: http://www.onsemi.com/pub_link/Collateral/318E-04.PDF
footprint ONSC-SOT-223-4-318E-04_V (SOT223, 4-Leads, Body 6.5x3.5mm, Pitch 2.3mm)
pins: 1 MT1, 2 MT2, 3 G, 4 MT2
text: 2, 4

## Z0107MAG
designator D?
Sensitive Gate Triac Series, Silicon Bidirectional Thyristor, 3-Pin TO-92, Pb-Free, Bulk Box; Manufacturer: On Semiconductor; PartNumber: Z0107MAG; IT(RMS) Max (A): 1; ITSM Max (A): 8; DatasheetVersion: Rev. 0; PackageVersion: Rev. AM; PackageReference: TO-92-3-29-11_AM_SL; PackageDescription: 3-Pin Transistor Outline, Body 4.825 x 3.685 mm, Pitch 1.27 mm; Supplier 1: Digi-Key; Supplier Part Number 1: Z0107MAG-ND; Supplier 2: Newark; Supplier Part Number 2: 01P5193; Supplier 3: Mouser; Supplier Part Number 3: 863-Z0107MAG; Packing: Bulk Box; RoHS: Pb-Free; Mounting Technology: Through Hole; ComponentLink1Description: Manufacturer URL; ComponentLink1URL: http://www.onsemi.com/; ComponentLink2Description: Datasheet; ComponentLink2URL: http://www.onsemi.com/pub_link/Collateral/Z0107MA-D.PDF; ComponentLink3Description: Package Specification; ComponentLink3URL: http://www.onsemi.cn/pub_link/Collateral/2N6426-D.PDF
footprint ONSC-TO-92-3-29-11 (TO, 3-Leads, Body Dia 4.7mm, Pitch 1.27mm)
pins: 1 MT1, 2 G, 3 MT2

## Z0107MARL1G
designator D?
Sensitive Gate Triac Series, Silicon Bidirectional Thyristor, 3-Pin TO-92, Pb-Free, Tape and Reel; Manufacturer: On Semiconductor; PartNumber: Z0107MARL1G; IT(RMS) Max (A): 1; ITSM Max (A): 8; DatasheetVersion: Rev. 0; PackageVersion: Rev. AM; PackageReference: TO-92-3-29-11_AM_SL; PackageDescription: 3-Pin Transistor Outline, Body 4.825 x 3.685 mm, Pitch 1.27 mm; Supplier 1: Digi-Key; Supplier Part Number 1: Z0107MARL1G-ND; Supplier 2: Mouser; Supplier Part Number 2: 863-Z0107MARL1G; Packing: Tape and Reel; RoHS: Pb-Free; Mounting Technology: Through Hole; ComponentLink1Description: Manufacturer URL; ComponentLink1URL: http://www.onsemi.com/; ComponentLink2Description: Datasheet; ComponentLink2URL: http://www.onsemi.com/pub_link/Collateral/Z0107MA-D.PDF; ComponentLink3Description: Package Specification; ComponentLink3URL: http://www.onsemi.cn/pub_link/Collateral/2N6426-D.PDF
footprint ONSC-TO-92-3-29-11 (TO, 3-Leads, Body Dia 4.7mm, Pitch 1.27mm)
pins: 1 MT1, 2 G, 3 MT2

## Z0107MARLRFG
designator D?
Sensitive Gate Triac Series, Silicon Bidirectional Thyristor, 3-Pin TO-92, Pb-Free, Fan-Fold; Manufacturer: On Semiconductor; PartNumber: Z0107MARLRFG; IT(RMS) Max (A): 1; ITSM Max (A): 8; DatasheetVersion: Rev. 0; PackageVersion: Rev. AM; PackageReference: TO-92-3-29-11_AM_SL; PackageDescription: 3-Pin Transistor Outline, Body 4.825 x 3.685 mm, Pitch 1.27 mm; Supplier 1: Digi-Key; Supplier Part Number 1: Z0107MARLRFG-ND; Supplier 2: Mouser; Supplier Part Number 2: 863-Z0107MARLRFG; Packing: Fan-Fold; RoHS: Pb-Free; Mounting Technology: Through Hole; ComponentLink1Description: Manufacturer URL; ComponentLink1URL: http://www.onsemi.com/; ComponentLink2Description: Datasheet; ComponentLink2URL: http://www.onsemi.com/pub_link/Collateral/Z0107MA-D.PDF; ComponentLink3Description: Package Specification; ComponentLink3URL: http://www.onsemi.cn/pub_link/Collateral/2N6426-D.PDF
footprint ONSC-TO-92-3-29-11 (TO, 3-Leads, Body Dia 4.7mm, Pitch 1.27mm)
pins: 1 MT1, 2 G, 3 MT2

## Z0107MARLRPG
designator D?
Sensitive Gate Triac Series, Silicon Bidirectional Thyristor, 3-Pin TO-92, Pb-Free, Fan-Fold; Manufacturer: On Semiconductor; PartNumber: Z0107MARLRPG; IT(RMS) Max (A): 1; ITSM Max (A): 8; DatasheetVersion: Rev. 0; PackageVersion: Rev. AM; PackageReference: TO-92-3-29-11_AM_SL; PackageDescription: 3-Pin Transistor Outline, Body 4.825 x 3.685 mm, Pitch 1.27 mm; Supplier 1: Digi-Key; Supplier Part Number 1: Z0107MARLRPG-ND; Supplier 2: Mouser; Supplier Part Number 2: 863-Z0107MARLRPG; Packing: Fan-Fold; RoHS: Pb-Free; Mounting Technology: Through Hole; ComponentLink1Description: Manufacturer URL; ComponentLink1URL: http://www.onsemi.com/; ComponentLink2Description: Datasheet; ComponentLink2URL: http://www.onsemi.com/pub_link/Collateral/Z0107MA-D.PDF; ComponentLink3Description: Package Specification; ComponentLink3URL: http://www.onsemi.cn/pub_link/Collateral/2N6426-D.PDF
footprint ONSC-TO-92-3-29-11 (TO, 3-Leads, Body Dia 4.7mm, Pitch 1.27mm)
pins: 1 MT1, 2 G, 3 MT2

## Z0107MNT1G
designator D?
Sensitive Gate Triac Series, Silicon Bidirectional Thyristor, 4-Pin SOT-223, Pb-Free, Tape and Reel; Manufacturer: On Semiconductor; PartNumber: Z0107MNT1G; IT(RMS) Max (A): 1; ITSM Max (A): 8; DatasheetVersion: Rev. 3; PackageVersion: Rev. N, 08/2009; PackageReference: SOT-223-4-318E-04; PackageDescription: 4-Pin Small Outline Transistor, Body 6.5 x 3.5 mm, Pitch 2.3 mm; Supplier 1: Digi-Key; Supplier Part Number 1: Z0107MNT1GOSTR-ND; Supplier 2: Digi-Key; Supplier Part Number 2: Z0107MNT1GOSCT-ND; Supplier 3: Digi-Key; Supplier Part Number 3: Z0107MNT1GOSDKR-ND; Supplier 4: Newark; Supplier Part Number 4: 95M7654; Supplier 5: Mouser; Supplier Part Number 5: 863-Z0107MNT1G; Packing: Tape and Reel; RoHS: Pb-Free; Mounting Technology: Surface Mount; ComponentLink1Description: Manufacturer URL; ComponentLink1URL: http://www.onsemi.com/; ComponentLink2Description: Datasheet; ComponentLink2URL: http://www.onsemi.com/pub_link/Collateral/Z0103MN-D.PDF; ComponentLink3Description: Package Specification; ComponentLink3URL: http://www.onsemi.com/pub_link/Collateral/318E-04.PDF
footprint ONSC-SOT-223-4-318E-04_V (SOT223, 4-Leads, Body 6.5x3.5mm, Pitch 2.3mm)
pins: 1 MT1, 2 MT2, 3 G, 4 MT2
text: 2, 4

## Z0109MAG
designator D?
Sensitive Gate Triac Series, Silicon Bidirectional Thyristor, 3-Pin TO-92, Pb-Free, Bulk Box; Manufacturer: On Semiconductor; PartNumber: Z0109MAG; IGT Max (mA): 10; IT(RMS) Max (A): 1; ITSM Max (A): 8; DatasheetVersion: Rev. 0; PackageVersion: Rev. AM; PackageReference: TO-92-3-29-11_AM_SL; PackageDescription: 3-Pin Transistor Outline, Body 4.825 x 3.685 mm, Pitch 1.27 mm; Supplier 1: Digi-Key; Supplier Part Number 1: Z0109MAG-ND; Supplier 2: Mouser; Supplier Part Number 2: 863-Z0109MAG; Packing: Bulk Box; RoHS: Pb-Free; Mounting Technology: Through Hole; ComponentLink1Description: Manufacturer URL; ComponentLink1URL: http://www.onsemi.com/; ComponentLink2Description: Datasheet; ComponentLink2URL: http://www.onsemi.com/pub_link/Collateral/Z0109MA-D.PDF; ComponentLink3Description: Package Specification; ComponentLink3URL: http://www.onsemi.cn/pub_link/Collateral/2N6426-D.PDF
footprint ONSC-TO-92-3-29-11 (TO, 3-Leads, Body Dia 4.7mm, Pitch 1.27mm)
pins: 1 MT1, 2 G, 3 MT2

## Z0109MARL1G
designator D?
Sensitive Gate Triac Series, Silicon Bidirectional Thyristor, 3-Pin TO-92, Pb-Free, Tape and Reel; Manufacturer: On Semiconductor; PartNumber: Z0109MARL1G; IGT Max (mA): 10; IT(RMS) Max (A): 1; ITSM Max (A): 8; DatasheetVersion: Rev. 0; PackageVersion: Rev. AM; PackageReference: TO-92-3-29-11_AM_SL; PackageDescription: 3-Pin Transistor Outline, Body 4.825 x 3.685 mm, Pitch 1.27 mm; Supplier 1: Digi-Key; Supplier Part Number 1: Z0109MARL1G-ND; Supplier 2: Mouser; Supplier Part Number 2: 863-Z0109MARL1G; Packing: Tape and Reel; RoHS: Pb-Free; Mounting Technology: Through Hole; ComponentLink1Description: Manufacturer URL; ComponentLink1URL: http://www.onsemi.com/; ComponentLink2Description: Datasheet; ComponentLink2URL: http://www.onsemi.com/pub_link/Collateral/Z0109MA-D.PDF; ComponentLink3Description: Package Specification; ComponentLink3URL: http://www.onsemi.cn/pub_link/Collateral/2N6426-D.PDF
footprint ONSC-TO-92-3-29-11 (TO, 3-Leads, Body Dia 4.7mm, Pitch 1.27mm)
pins: 1 MT1, 2 G, 3 MT2

## Z0109MARLRFG
designator D?
Sensitive Gate Triac Series, Silicon Bidirectional Thyristor, 3-Pin TO-92, Pb-Free, Fan-Fold; Manufacturer: On Semiconductor; PartNumber: Z0109MARLRFG; IGT Max (mA): 10; IT(RMS) Max (A): 1; ITSM Max (A): 8; DatasheetVersion: Rev. 0; PackageVersion: Rev. AM; PackageReference: TO-92-3-29-11_AM_SL; PackageDescription: 3-Pin Transistor Outline, Body 4.825 x 3.685 mm, Pitch 1.27 mm; Supplier 1: Digi-Key; Supplier Part Number 1: Z0109MARLRFG-ND; Supplier 2: Mouser; Supplier Part Number 2: 863-Z0109MARLRFG; Packing: Fan-Fold; RoHS: Pb-Free; Mounting Technology: Through Hole; ComponentLink1Description: Manufacturer URL; ComponentLink1URL: http://www.onsemi.com/; ComponentLink2Description: Datasheet; ComponentLink2URL: http://www.onsemi.com/pub_link/Collateral/Z0109MA-D.PDF; ComponentLink3Description: Package Specification; ComponentLink3URL: http://www.onsemi.cn/pub_link/Collateral/2N6426-D.PDF
footprint ONSC-TO-92-3-29-11 (TO, 3-Leads, Body Dia 4.7mm, Pitch 1.27mm)
pins: 1 MT1, 2 G, 3 MT2

## Z0109MARLRPG
designator D?
Sensitive Gate Triac Series, Silicon Bidirectional Thyristor, 3-Pin TO-92, Pb-Free, Fan-Fold; Manufacturer: On Semiconductor; PartNumber: Z0109MARLRPG; IGT Max (mA): 10; IT(RMS) Max (A): 1; ITSM Max (A): 8; DatasheetVersion: Rev. 0; PackageVersion: Rev. AM; PackageReference: TO-92-3-29-11_AM_SL; PackageDescription: 3-Pin Transistor Outline, Body 4.825 x 3.685 mm, Pitch 1.27 mm; Supplier 1: Digi-Key; Supplier Part Number 1: Z0109MARLRPG-ND; Supplier 2: Mouser; Supplier Part Number 2: 863-Z0109MARLRPG; Packing: Fan-Fold; RoHS: Pb-Free; Mounting Technology: Through Hole; ComponentLink1Description: Manufacturer URL; ComponentLink1URL: http://www.onsemi.com/; ComponentLink2Description: Datasheet; ComponentLink2URL: http://www.onsemi.com/pub_link/Collateral/Z0109MA-D.PDF; ComponentLink3Description: Package Specification; ComponentLink3URL: http://www.onsemi.cn/pub_link/Collateral/2N6426-D.PDF
footprint ONSC-TO-92-3-29-11 (TO, 3-Leads, Body Dia 4.7mm, Pitch 1.27mm)
pins: 1 MT1, 2 G, 3 MT2

## Z0109MNT1G
designator D?
Sensitive Gate Triac Series, Silicon Bidirectional Thyristor, 4-Pin SOT-223, Pb-Free, Tape and Reel; Manufacturer: On Semiconductor; PartNumber: Z0109MNT1G; IGT Max (mA): 10; IT(RMS) Max (A): 1; ITSM Max (A): 8; DatasheetVersion: Rev. 3; PackageVersion: Rev. N, 08/2009; PackageReference: SOT-223-4-318E-04; PackageDescription: 4-Pin Small Outline Transistor, Body 6.5 x 3.5 mm, Pitch 2.3 mm; Supplier 1: Digi-Key; Supplier Part Number 1: Z0109MNT1GOSTR-ND; Supplier 2: Digi-Key; Supplier Part Number 2: Z0109MNT1GOSCT-ND; Supplier 3: Digi-Key; Supplier Part Number 3: Z0109MNT1GOSDKR-ND; Supplier 4: Farnell; Supplier Part Number 4: 1640135; Supplier 5: Newark; Supplier Part Number 5: 95M7655; Supplier 6: Newark; Supplier Part Number 6: 16N1963; Supplier 7: Mouser; Supplier Part Number 7: 863-Z0109MNT1G; Packing: Tape and Reel; RoHS: Pb-Free; Mounting Technology: Surface Mount; ComponentLink1Description: Manufacturer URL; ComponentLink1URL: http://www.onsemi.com/; ComponentLink2Description: Datasheet; ComponentLink2URL: http://www.onsemi.com/pub_link/Collateral/Z0103MN-D.PDF; ComponentLink3Description: Package Specification; ComponentLink3URL: http://www.onsemi.com/pub_link/Collateral/318E-04.PDF
footprint ONSC-SOT-223-4-318E-04_V (SOT223, 4-Leads, Body 6.5x3.5mm, Pitch 2.3mm)
pins: 1 MT1, 2 MT2, 3 G, 4 MT2
text: 2, 4